# Altium footprint library footprints.PcbLib: 5 footprints
Each footprint in its own frame and in the unit in brackets; x right, y up, seen from the top. Pads: shape width x height; smd on the part's side, far side on the other; paste and mask are expansions set on the pad; w line width, h text height; cw(c..) or ccw(c..) is an arc to the next point about the centre after c.
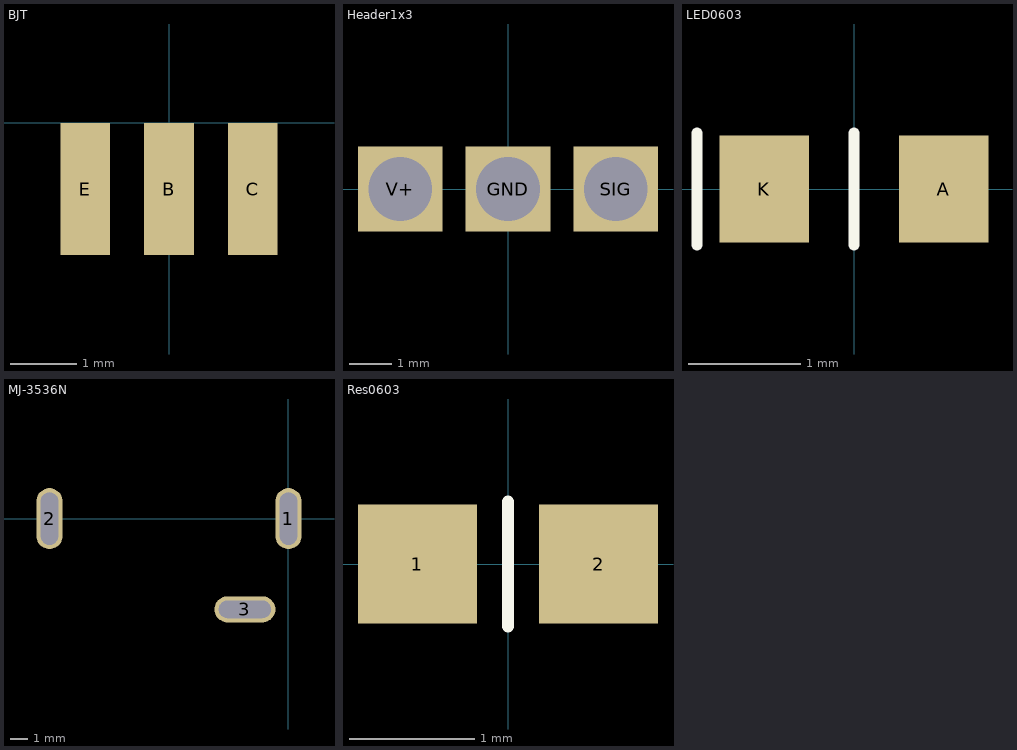
[diagram p0: the footprints below, top view; thin cyan lines are the x and y axes]

## BJT [mm]
pads (3):
  rect 0.75x2 smd: B(0,-1) C(1.27,-1) E(-1.27,-1)
3D body: height 4.2, standoff 0, extent -2.6,0.5 2.6,5.83

## Header1x3 [mm]
pads (3):
  rect 2x2 hole 1.5: GND(0,0) SIG(2.54,0) V+(-2.54,0)
3D body: height 2.54, standoff 0, extent -3.81,-1.27 3.81,1.27

## LED0603 [mm]
pads (2):
  rect 0.8x0.95 smd: A(0.8,0) K(-0.8,0)
Top Overlay:
  lines w0.1: -1.4,-0.5 -1.4,0.5 ; 0,-0.5 0,0.5
3D body: height 0.3, standoff 0, extent -0.8,-0.4 0.8,0.4
3D body: height 0.7, standoff 0, extent -0.55,-0.4 0.55,0.4

## MJ-3536N [mm]
pads (3):
  oval 1.5x3.5 hole 1 slot 3 at 90 deg: 1(0,0) 2(-13.7,0)
  oval 3.5x1.5 hole 1 slot 3 at 0 deg: 3(-2.5,-5.2)
3D body: height 10, standoff 0, extent -16,-5 0,5

## Res0603 [mm]
pads (2):
  rect 0.95x0.95 smd: 1(-0.725,0) 2(0.725,0)
Top Overlay:
  lines w0.1: 0,-0.5 0,0.5
3D body: height 0.45, standoff 0, extent -0.775,-0.425 0.775,0.425